# Altium schematic symbol library AD7124-8.Schlib: 1 symbol
Pins are listed as number, name and electrical type; pins without a type are passive.

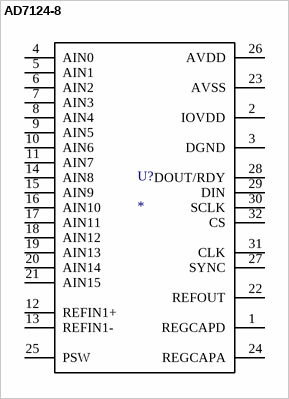
[diagram p0: symbol AD7124-8]

## AD7124-8
designator U?
pins: 1 REGCAPD, 2 IOVDD, 3 DGND, 4 AIN0, 5 AIN1, 6 AIN2, 7 AIN3, 8 AIN4, 9 AIN5, 10 AIN6, 11 AIN7, 12 REFIN1+, 13 REFIN1-, 14 AIN8, 15 AIN9, 16 AIN10, 17 AIN11, 18 AIN12, 19 AIN13, 20 AIN14, 21 AIN15, 22 REFOUT, 23 AVSS, 24 REGCAPA, 25 PSW, 26 AVDD, 27 SYNC, 28 DOUT/RDY, 29 DIN, 30 SCLK, 31 CLK, 32 CS